# EAGLE library part LIS302DL (library 0SBLib)
MEMS motion sensor 3-axis - ± 2g/± 8g smart digital output "piccolo" accelerometer
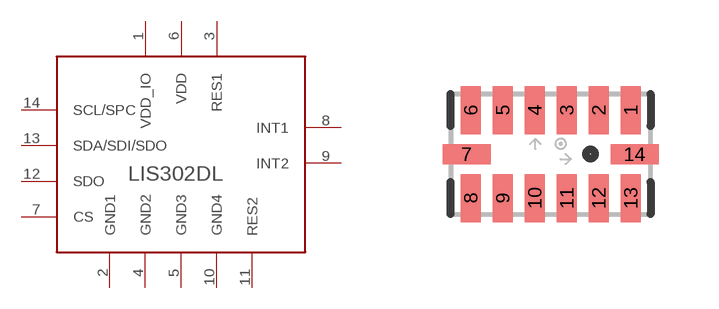
[diagram p7: symbol with the pads of LGA14; footprint LGA14]

Designator prefix -

## LIS302DL  [LGA14]
1  VDD_IO
2  GND1
3  RES1
4  GND2
5  GND3
6  VDD
7  CS
8  INT1
9  INT2
10  GND4
11  RES2
12  SDO
13  SDA/SDI/SDO
14  SCL/SPC

## Footprint LGA14 (pad centres in mm)
smd 0.5 x 1.2: 1 2,1.1; 2 1.2,1.1; 3 0.4,1.1; 4 -0.4,1.1; 5 -1.2,1.1; 6 -2,1.1; 8 -2,-1.1; 9 -1.2,-1.1; 10 -0.4,-1.1; 11 0.4,-1.1; 12 1.2,-1.1; 13 2,-1.1
smd 1.2 x 0.5: 7 -2.1,0; 14 2.1,0